# EAGLE library part POCKETBEAGLE (library Buzzer Box)
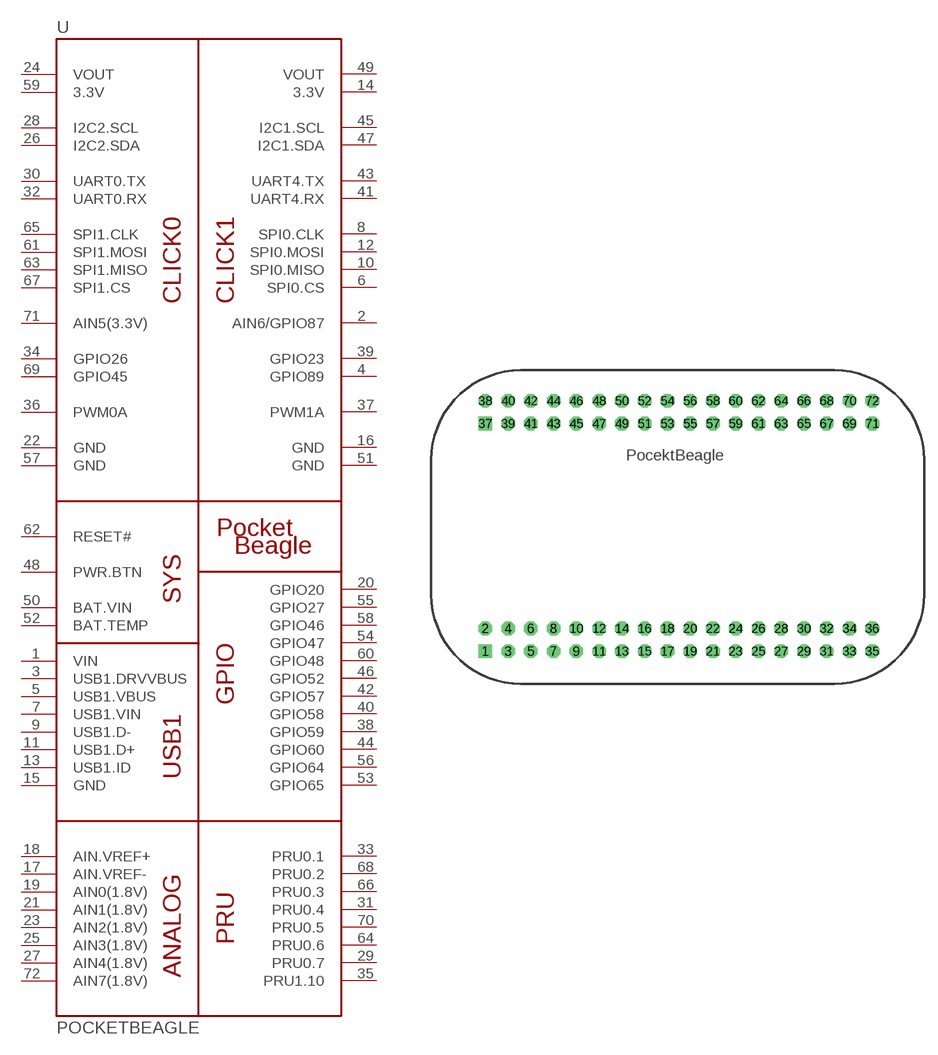
[diagram p2: symbol with the pads of POCKETBEAGLE; footprint POCKETBEAGLE]

Designator prefix U

## POCKETBEAGLE  [POCKETBEAGLE]
1  VIN
2  AIN6/GPIO87
3  USB1.DRVVBUS
4  GPIO89
5  USB1.VBUS
6  SPI0.CS
7  USB1.VIN
8  SPI0.CLK
9  USB1.D-
10  SPI0.MISO
11  USB1.D+
12  SPI0.MOSI
13  USB1.ID
14  3.3V
15  GND
16  GND
17  AIN.VREF-
18  AIN.VREF+
19  AIN0(1.8V)
20  GPIO20
21  AIN1(1.8V)
22  GND
23  AIN2(1.8V)
24  VOUT
25  AIN3(1.8V)
26  I2C2.SDA
27  AIN4(1.8V)
28  I2C2.SCL
29  PRU0.7
30  UART0.TX
31  PRU0.4
32  UART0.RX
33  PRU0.1
34  GPIO26
35  PRU1.10
36  PWM0A
37  PWM1A
38  GPIO59
39  GPIO23
40  GPIO58
41  UART4.RX
42  GPIO57
43  UART4.TX
44  GPIO60
45  I2C1.SCL
46  GPIO52
47  I2C1.SDA
48  PWR.BTN
49  VOUT
50  BAT.VIN
51  GND
52  BAT.TEMP
53  GPIO65
54  GPIO47
55  GPIO27
56  GPIO64
57  GND
58  GPIO46
59  3.3V
60  GPIO48
61  SPI1.MOSI
62  RESET#
63  SPI1.MISO
64  PRU0.6
65  SPI1.CLK
66  PRU0.3
67  SPI1.CS
68  PRU0.2
69  GPIO45
70  PRU0.5
71  AIN5(3.3V)
72  AIN7(1.8V)

## Footprint POCKETBEAGLE (pad centres in mm)
drill 0.889 pad 1.524 square: 1 5.91,3.53; 37 5.91,28.93
drill 0.889 pad 1.524 octagon: 2 5.91,6.07; 3 8.45,3.53; 4 8.45,6.07; 5 10.99,3.53; 6 10.99,6.07; 7 13.53,3.53; 8 13.53,6.07; 9 16.07,3.53; 10 16.07,6.07; 11 18.61,3.53; 12 18.61,6.07; 13 21.15,3.53; 14 21.15,6.07; 15 23.69,3.53; 16 23.69,6.07; 17 26.23,3.53; 18 26.23,6.07; 19 28.77,3.53; 20 28.77,6.07; 21 31.31,3.53; 22 31.31,6.07; 23 33.85,3.53; 24 33.85,6.07; 25 36.39,3.53; 26 36.39,6.07; 27 38.93,3.53; 28 38.93,6.07; 29 41.47,3.53; 30 41.47,6.07; 31 44.01,3.53; 32 44.01,6.07; 33 46.55,3.53; 34 46.55,6.07; 35 49.09,3.53; 36 49.09,6.07; 38 5.91,31.47; 39 8.45,28.93; 40 8.45,31.47; 41 10.99,28.93; 42 10.99,31.47; 43 13.53,28.93; 44 13.53,31.47; 45 16.07,28.93; 46 16.07,31.47; 47 18.61,28.93; 48 18.61,31.47; 49 21.15,28.93; 50 21.15,31.47; 51 23.69,28.93; 52 23.69,31.47; 53 26.23,28.93; 54 26.23,31.47; 55 28.77,28.93; 56 28.77,31.47; 57 31.31,28.93; 58 31.31,31.47; 59 33.85,28.93; 60 33.85,31.47; 61 36.39,28.93; 62 36.39,31.47; 63 38.93,28.93; 64 38.93,31.47; 65 41.47,28.93; 66 41.47,31.47; 67 44.01,28.93; 68 44.01,31.47; 69 46.55,28.93; 70 46.55,31.47; 71 49.09,28.93; 72 49.09,31.47